# Altium footprint library SamacSys.PcbLib: 21 footprints (part 1 of 2)
Each footprint in its own frame and in the unit in brackets; x right, y up, seen from the top. Pads: shape width x height; smd on the part's side, far side on the other; paste and mask are expansions set on the pad; w line width, h text height; cw(c..) or ccw(c..) is an arc to the next point about the centre after c.
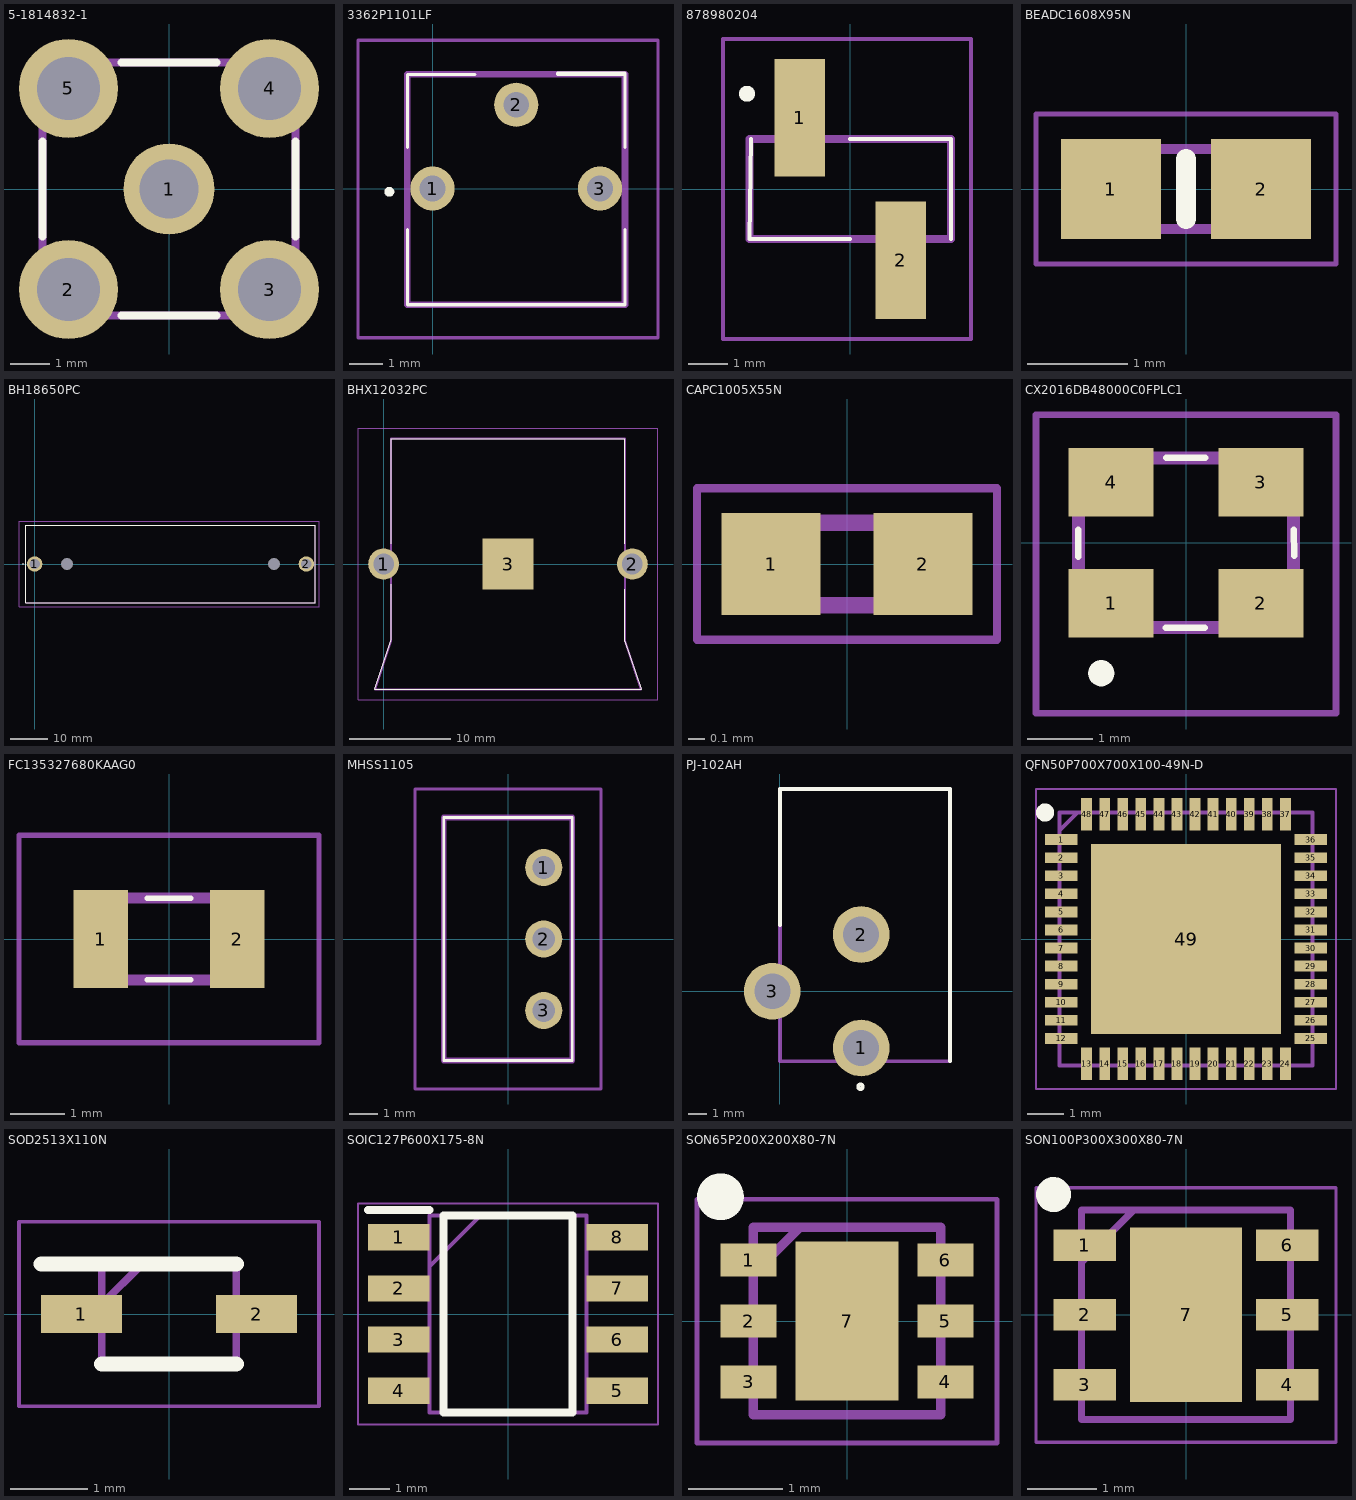
[diagram p0: the footprints below, top view; thin cyan lines are the x and y axes]

## 5-1814832-1 [mm]
pads (5):
  round 2.3 hole 1.5: 1(0,0)
  round 2.5 hole 1.6: 2(-2.54,-2.54) 3(2.54,-2.54) 4(2.54,2.54) 5(-2.54,2.54)
Top Overlay:
  lines w0.2: -3.2,-1.2 -3.2,1.2 ; -1.2,-3.2 1.2,-3.2 ; -1.2,3.2 1.2,3.2 ; 3.2,-1.2 3.2,1.2
Mechanical 13:
  lines w0.2: -3.2,-3.2 -3.2,3.2 3.2,3.2 3.2,-3.2 -3.2,-3.2
3D body "5-1814832-1.stp": height 13.21, standoff -0.29, extent -3.2,-3.2 3.2,3.2

## 3362P1101LF [mm]
pads (3):
  round 1.337 hole 0.78: 1(0,0) 2(2.54,2.54) 3(5.08,0)
Top Overlay:
  lines w0.1: -0.76,-3.53 -0.76,-1.25 -0.76,-3.53 ; -0.76,-3.53 5.84,-3.53 ; -0.76,-3.53 5.84,-3.53 ; -0.76,3.46 1.29,3.46 -0.76,3.46 ; -0.76,3.46 -0.76,1.25 -0.76,3.46 ; 5.84,-3.53 5.84,-1.25 5.84,-3.53 ; 5.84,3.46 5.84,1.25 5.84,3.46 ; 5.84,3.46 3.79,3.46 3.79,3.5 5.84,3.5 5.84,3.46
  lines w0.2: -1.36,-0.1 cw(c-1.31,-0.1) -1.26,-0.1 ; -1.36,-0.1 ccw(c-1.31,-0.1) -1.26,-0.1 ; -1.36,-0.1 cw(c-1.31,-0.1) -1.26,-0.1
Mechanical 13:
  lines w0.2: -0.76,-3.53 5.84,-3.53 5.84,3.46 -0.76,3.46 -0.76,-3.53
Mechanical 15:
  lines w0.1: -2.26,-4.53 6.84,-4.53 6.84,4.5 -2.26,4.5 -2.26,-4.53
3D body "3362P-1-101LF.stp": height 4.95, standoff -5, extent -0.76,-3.53 5.84,3.46

## 878980204 [mm]
pads (2):
  rect 1.27x2.96 smd: 1(-1.27,1.8) 2(1.27,-1.8)
Top Overlay:
  lines w0.1: -2.5,1.255 -2.54,-1.255 0,-1.255 ; 0,1.255 2.54,1.255 2.54,-1.255
  lines w0.2: -2.6,2.3 ccw(c-2.6,2.4) -2.6,2.5 ccw(c-2.6,2.4) -2.6,2.3
Mechanical 13:
  lines w0.2: -2.54,-1.255 2.54,-1.255 2.54,1.255 -2.54,1.255 -2.54,-1.255
Mechanical 15:
  lines w0.1: -3.2,-3.78 3.04,-3.78 3.04,3.78 -3.2,3.78 -3.2,-3.78
3D body "87898-0204.stp": height 8.43, standoff 0, extent -2.54,-3.153 2.54,3.153

## BEADC1608X95N [mm]
pads (2):
  rect 1x1 smd: 1(-0.75,0) 2(0.75,0)
Top Overlay:
  lines w0.2: 0,-0.3 0,0.3
Mechanical 13:
  lines w0.1: -0.8,-0.4 -0.8,0.4 0.8,0.4 0.8,-0.4 -0.8,-0.4
Mechanical 15:
  lines w0.05: -1.5,-0.75 -1.5,0.75 1.5,0.75 1.5,-0.75 -1.5,-0.75
3D body "BLM18HE152SN1B.stp": height 0.95, standoff 0, extent -0.8,-0.4 0.8,0.4

## BH18650PC [mm]
pads (4):
  round 4.155 hole 2.77: 1(0,0) 2(72.9,0)
  round 1.6 hole 3.2 unplated: MH1(8.645,0) MH2(64.255,0)
Top Overlay:
  lines w0.1: -2.4,-10.45 75.3,-10.45 75.3,10.45 -2.4,10.45 -2.4,-10.45
  lines w0.2: -3.2,0 ccw(c-3.15,0) -3.1,0 ; -3.2,0 cw(c-3.15,0) -3.1,0 ; -3.2,0 ccw(c-3.15,0) -3.1,0
Mechanical 13:
  lines w0.2: -2.4,-10.45 75.3,-10.45 75.3,10.45 -2.4,10.45 -2.4,-10.45
Mechanical 15:
  lines w0.1: -4.2,-11.45 76.3,-11.45 76.3,11.45 -4.2,11.45 -4.2,-11.45
3D body "BH-18650-PC.stp": height 21.31, standoff -5, extent -2.4,-10.45 75.3,10.45

## BHX12032PC [mm]
pads (3):
  round 3.045 hole 2.03: 1(0,0) 2(24.6,0)
  rect 5x5 smd: 3(12.3,0)
Top Overlay:
  lines w0.1: 0.745,-2 0.745,-7.5 -0.85,-12.4 25.45,-12.4 23.855,-7.62 23.855,-2.5 ; 0.745,2 0.745,12.4 23.855,12.4 23.855,2
Mechanical 13:
  lines w0.2: -0.85,-12.4 25.45,-12.4 23.855,-7.62 23.855,12.4 0.745,12.4 0.745,-7.62 -0.85,-12.4
Mechanical 15:
  lines w0.1: -2.523,-13.4 -2.523,13.4 27.123,13.4 27.123,-13.4 -2.523,-13.4

## CAPC1005X55N [mm]
pads (2):
  rect 0.6x0.62 smd: 1(-0.46,0) 2(0.46,0)
Mechanical 13:
  lines w0.1: -0.5,-0.25 -0.5,0.25 0.5,0.25 0.5,-0.25 -0.5,-0.25
Mechanical 15:
  lines w0.05: -0.91,-0.46 -0.91,0.46 0.91,0.46 0.91,-0.46 -0.91,-0.46
3D body "GRM155R71H471KA01D.stp": height 0.55, standoff 0, extent -0.5,-0.25 0.5,0.25

## CX2016DB48000C0FPLC1 [mm]
pads (4):
  rect 1.3x1.05 smd: 1(-1.15,-0.925) 2(1.15,-0.925) 3(1.15,0.925) 4(-1.15,0.925)
Top Overlay:
  lines w0.1: -1.655,0.199 -1.649,-0.211 ; -0.312,-1.299 0.284,-1.299 ; -0.303,1.302 0.298,1.302 ; 1.65,0.203 1.658,-0.198
  lines w0.2: -1.4,-2 cw(c-1.3,-2) -1.2,-2 cw(c-1.3,-2) -1.4,-2
Mechanical 13:
  lines w0.2: -1.65,-1.3 1.65,-1.3 1.65,1.3 -1.65,1.3 -1.65,-1.3
Mechanical 15:
  lines w0.1: -2.3,-2.61 2.3,-2.61 2.3,1.96 -2.3,1.96 -2.3,-2.61

## FC135327680KAAG0 [mm]
pads (2):
  rect 1x1.8 smd: 1(-1.25,0) 2(1.25,0)
Top Overlay:
  lines w0.1: -0.4,-0.75 0.4,-0.75 ; -0.4,0.75 0.4,0.75
Mechanical 13:
  lines w0.2: -1.6,-0.75 -1.6,0.75 1.6,0.75 1.6,-0.75 -1.6,-0.75
Mechanical 15:
  lines w0.1: -2.75,-1.9 -2.75,1.9 2.75,1.9 2.75,-1.9 -2.75,-1.9

## MHSS1105 [mm]
pads (3):
  round 1.3 hole 0.8: 1(1.25,2.5) 2(1.25,0) 3(1.25,-2.5)
Top Overlay:
  lines w0.1: -2.25,-4.25 -2.25,4.25 2.25,4.25 2.25,-4.25 -2.25,-4.25
Mechanical 13:
  lines w0.2: -2.25,-4.25 -2.25,4.25 2.25,4.25 2.25,-4.25 -2.25,-4.25
Mechanical 15:
  lines w0.1: -3.25,-5.25 -3.25,5.25 3.25,5.25 3.25,-5.25 -3.25,-5.25
3D body "MHSS1105.stp": height 4, standoff -5, extent -2.25,-4.25 2.25,4.25

## PJ-102AH [mm]
pads (3):
  round 3 hole 1.9: 1(4.3,-3) 2(4.3,3) 3(-0.4,0)
Top Overlay:
  circle w0.2: c4.261,-5.051 r0.119
  lines w0.2: 0,3.5 0,10.7 9,10.7 9,-3.7
Mechanical 13:
  lines w0.2: 0,-3.7 9,-3.7 9,10.7 0,10.7 0,-3.7
3D body "PJ-102A.stp": height 4.5, standoff -4.9, extent -14.4,-10 0,4.5

## QFN50P700X700X100-49N-D [mm]
pads (49):
  rect 0.9x0.3 smd: 1(-3.45,2.75) 2(-3.45,2.25) 3(-3.45,1.75) 4(-3.45,1.25) 5(-3.45,0.75) 6(-3.45,0.25) 7(-3.45,-0.25) 8(-3.45,-0.75) 9(-3.45,-1.25) 10(-3.45,-1.75) 11(-3.45,-2.25) 12(-3.45,-2.75) 25(3.45,-2.75) 26(3.45,-2.25) 27(3.45,-1.75) 28(3.45,-1.25) 29(3.45,-0.75) 30(3.45,-0.25) 31(3.45,0.25) 32(3.45,0.75) 33(3.45,1.25) 34(3.45,1.75) 35(3.45,2.25) 36(3.45,2.75)
  rect 0.3x0.9 smd: 13(-2.75,-3.45) 14(-2.25,-3.45) 15(-1.75,-3.45) 16(-1.25,-3.45) 17(-0.75,-3.45) 18(-0.25,-3.45) 19(0.25,-3.45) 20(0.75,-3.45) 21(1.25,-3.45) 22(1.75,-3.45) 23(2.25,-3.45) 24(2.75,-3.45) 37(2.75,3.45) 38(2.25,3.45) 39(1.75,3.45) 40(1.25,3.45) 41(0.75,3.45) 42(0.25,3.45) 43(-0.25,3.45) 44(-0.75,3.45) 45(-1.25,3.45) 46(-1.75,3.45) 47(-2.25,3.45) 48(-2.75,3.45)
  rect 5.25x5.25 smd: 49(0,0)
Top Overlay:
  circle w0.25: c-3.9,3.5 r0.125
Mechanical 13:
  lines w0.1: -3.5,3 -3,3.5 ; -3.5,-3.5 -3.5,3.5 3.5,3.5 3.5,-3.5 -3.5,-3.5
Mechanical 15:
  lines w0.05: -4.15,-4.15 -4.15,4.15 4.15,4.15 4.15,-4.15 -4.15,-4.15
3D body "XCC1352R1F3RGZR.stp": height 1, standoff 0, extent -3.55,-3.55 3.55,3.55

## SOD2513X110N [mm]
pads (2):
  rect 1.05x0.5 smd: 1(-1.138,0) 2(1.138,0)
Top Overlay:
  lines w0.2: -1.662,0.65 0.875,0.65 ; -0.875,-0.65 0.875,-0.65
Mechanical 13:
  lines w0.1: -0.875,0.125 -0.35,0.65 ; -0.875,-0.65 -0.875,0.65 0.875,0.65 0.875,-0.65 -0.875,-0.65
Mechanical 15:
  lines w0.05: -1.95,-1.2 -1.95,1.2 1.95,1.2 1.95,-1.2 -1.95,-1.2

## SOIC127P600X175-8N [mm]
pads (8):
  rect 1.525x0.65 smd: 1(-2.712,1.905) 2(-2.712,0.635) 3(-2.712,-0.635) 4(-2.712,-1.905) 5(2.712,-1.905) 6(2.712,-0.635) 7(2.712,0.635) 8(2.712,1.905)
Top Overlay:
  lines w0.2: -3.475,2.58 -1.95,2.58 ; -1.6,-2.45 -1.6,2.45 1.6,2.45 1.6,-2.45 -1.6,-2.45
Mechanical 13:
  lines w0.1: -1.95,1.18 -0.68,2.45 ; -1.95,-2.45 -1.95,2.45 1.95,2.45 1.95,-2.45 -1.95,-2.45
Mechanical 15:
  lines w0.05: -3.725,-2.75 -3.725,2.75 3.725,2.75 3.725,-2.75 -3.725,-2.75
3D body "NE555DR.stp": height 1.75, standoff 0, extent -3,-2.45 3,2.45

## SON65P200X200X80-7N [mm]
pads (7):
  rect 0.6x0.35 smd: 1(-1.05,0.65) 2(-1.05,0) 3(-1.05,-0.65) 4(1.05,-0.65) 5(1.05,0) 6(1.05,0.65)
  rect 1.1x1.7 smd: 7(0,0)
Top Overlay:
  circle w0.25: c-1.35,1.325 r0.125
Mechanical 13:
  lines w0.1: -1,0.5 -0.5,1 ; -1,-1 -1,1 1,1 1,-1 -1,-1
Mechanical 15:
  lines w0.05: -1.6,-1.3 -1.6,1.3 1.6,1.3 1.6,-1.3 -1.6,-1.3
3D body "TPS61291DRVT.stp": height 0.8, standoff 0, extent -1.05,-1 1.05,1

## SON100P300X300X80-7N [mm]
pads (7):
  rect 0.9x0.45 smd: 1(-1.45,1) 2(-1.45,0) 3(-1.45,-1) 4(1.45,-1) 5(1.45,0) 6(1.45,1)
  rect 1.6x2.5 smd: 7(0,0)
Top Overlay:
  circle w0.25: c-1.9,1.725 r0.125
Mechanical 13:
  lines w0.1: -1.5,0.75 -0.75,1.5 ; -1.5,-1.5 1.5,-1.5 1.5,1.5 -1.5,1.5 -1.5,-1.5
Mechanical 15:
  lines w0.05: -2.15,-1.825 2.15,-1.825 2.15,1.825 -2.15,1.825 -2.15,-1.825
3D body "HDC1080DMBT.stp": height 0.8, standoff 0, extent -1.55,-1.5 1.55,1.5